# EAGLE library part 66200621122 (library Wire-to-Board)
WR-MPC3 3.00mm Male Dual Row Vertical Header, 6 Pins=>Code : Con_WTB_MPC3_2_PCB_THT_66200621122 <http://katalog.we-online.de/media/thumbs2/eican/thb_Con_WTB_MPC3_2_PCB_THT_6620xx21122_pf2.jpg> Details see: http://katalog.we-online.de/en/em/662_0xx_211_22 Created 2014-06-06, Karrer Zheng 2014 (C) Würth Elektronik
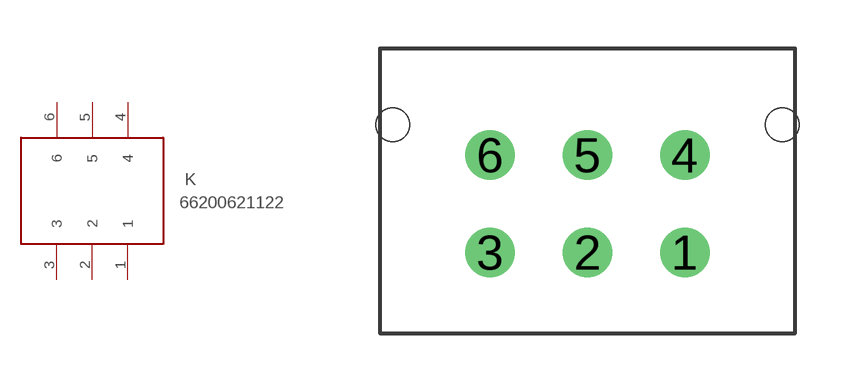
[diagram p328: symbol with the pads of 66200621122; footprint 66200621122]

Designator prefix K

## 66200621122  [66200621122]
1  1
2  2
3  3
4  4
5  5
6  6

## Footprint 66200621122 (pad centres in mm)
WR-MPC3-3.00mm Male Dual Row Vertical Header,6 pins
drill 1.02: 1 0,-1.5; 2 -3,-1.5; 3 -6,-1.5; 4 0,1.5; 5 -3,1.5; 6 -6,1.5
hole 1.02 at -9,2.44
hole 1.02 at 3,2.44